# Altium schematic symbol library Schlib.SchLib: 12 symbols
Pins are listed as number, name and electrical type; pins without a type are passive.

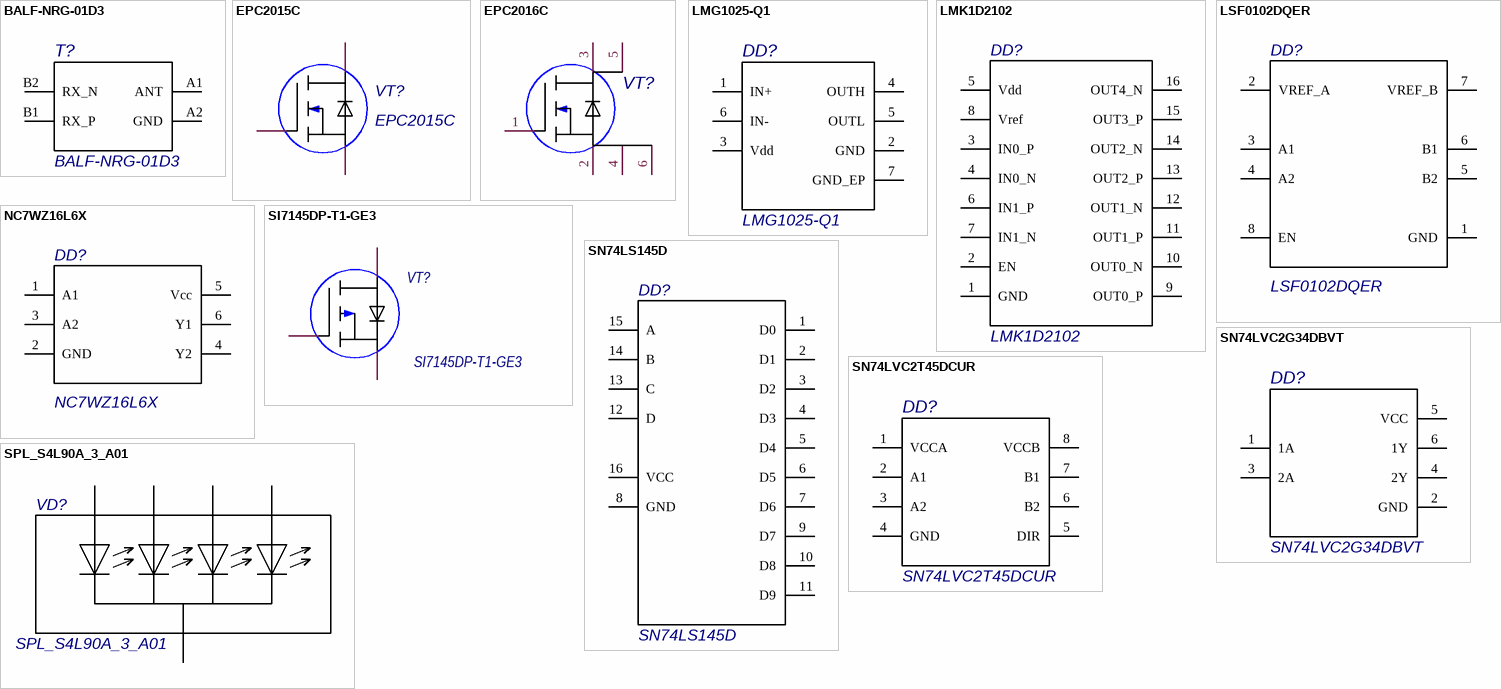
[diagram p0: symbols BALF-NRG-01D3 to SPL_S4L90A_3_A01]

## BALF-NRG-01D3
designator T?
RF Balun 2.4GHz ~ 2.5GHz 50 / 50Ohm 4-WFBGA, FCBGA; MF: STMicroelectronics; Package: WFBGA-4 STMicroelectronics; MP: BALF-NRG-01D3; Value: *; Availability: Unavailable; SnapEDA_Link: https://www.snapeda.com/parts/BALF-NRG-01D3/STMicroelectronics/view-part/551399/?ref=snap; Price: None
footprint FLIPCHIP
pins: A1 ANT (power), A2 GND (power), B1 RX_P (power), B2 RX_N (power)

## EPC2015C
designator VT?
footprint TRANS_EPC2015C
pins: 1 G, 2 S, 3 D

## EPC2016C
designator VT?  (value not drawn)
footprint EPC_2016C
pins: 1 G, 2 S, 3 D, 4 S, 5 D, 6 S

## LMG1025-Q1
designator DD?
footprint SON65P200X200X80-7N
pins: 1 IN+, 2 GND, 3 Vdd, 4 OUTH, 5 OUTL, 6 IN-, 7 GND_EP

## LMK1D2102
designator DD?
footprint QFN50P300X300X100-17N
pins: 1 GND, 2 EN, 3 IN0_P, 4 IN0_N, 5 Vdd, 6 IN1_P, 7 IN1_N, 8 Vref, 9 OUT0_P, 10 OUT0_N, 11 OUT1_P, 12 OUT1_N, 13 OUT2_P, 14 OUT2_N, 15 OUT3_P, 16 OUT4_N

## LSF0102DQER
designator DD?
Dual Bidirectional Multi-Voltage Level Translator 8-X2SON -40 to 125; MF: Texas Instruments; Price: None; Value: *; Package: X2SON-8 Texas Instruments; Purchase-URL: https://pricing.snapeda.com/search/part/LSF0102DQER/?ref=eda; SnapEDA_Link: https://www.snapeda.com/parts/LSF0102DQER/Texas%20Instruments/view-part/196672/?ref=snap; MP: LSF0102DQER; Availability: Good
footprint SON35P140X100X40-8N
pins: 1 GND, 2 VREF_A, 3 A1, 4 A2, 5 B2, 6 B1, 7 VREF_B, 8 EN

## NC7WZ16L6X
designator DD?
footprint PSON50P145X100X55-6N
pins: 1 A1, 2 GND, 3 A2, 4 Y2, 5 Vcc, 6 Y1

## SI7145DP-T1-GE3
designator VT?
footprint TRANS_FDMS0300
pins: 1 G, 2 S, 3 D

## SN74LS145D
designator DD?
Package: None; Price: None; Value: *; MP: SN74LS145D; Availability: Unavailable
footprint SOIC127P600X175-16N
pins: 1 D0, 2 D1, 3 D2, 4 D3, 5 D4, 6 D5, 7 D6, 8 GND, 9 D7, 10 D8, 11 D9, 12 D, 13 C, 14 B, 15 A, 16 VCC

## SN74LVC2G34DBVT
designator DD?
Package: None; Price: None; Value: *; MP: SN74LVC2G34DBVT; Availability: Unavailable
footprint SOT95P280X145-6N
pins: 1 1A, 2 GND, 3 2A, 4 2Y, 5 VCC, 6 1Y

## SN74LVC2T45DCUR
designator DD?
2-Bit Dual Supply Transceiver with Configurable Voltage-Level Shifting and 3-State Outputs 8-VSSOP -40 to 85; MF: Texas Instruments; Availability: Warning; Value: *; Check_prices: https://www.snapeda.com/parts/SN74LVC2T45DCUR/Texas%20Instruments/view-part/261570/?ref=eda; Package: VSSOP-8 Texas Instruments; SnapEDA_Link: https://www.snapeda.com/parts/SN74LVC2T45DCUR/Texas%20Instruments/view-part/261570/?ref=snap; Price: None; MP: SN74LVC2T45DCUR; Purchase-URL: https://pricing.snapeda.com/search/part/SN74LVC2T45DCUR/?ref=eda
footprint SOP50P310X90-8N
pins: 1 VCCA, 2 A1, 3 A2, 4 GND, 5 DIR, 6 B2, 7 B1, 8 VCCB

## SPL_S4L90A_3_A01
designator VD?
footprint SPL_S4L90A_3_A01
pins: 1, 2, 3, 4, 5